# Altium schematic symbol library symbols.SchLib: 1 symbol
Pins are listed as number, name and electrical type; pins without a type are passive.

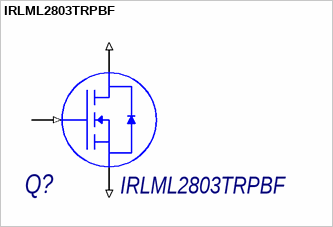
[diagram p0: symbol IRLML2803TRPBF]

## IRLML2803TRPBF
designator Q?
N-MOSFET 30V 1.2A SOT23; Supplier 1: Future Electronics; Supplier Part Number 1: 1173882
footprint SOT23-3 (SOT23, 3 pin)
pins: 1 G (in) "Информационный вход Х6", 2 S (in) "Информационный вход Х6", 3 D (in) "Информационный вход Х6"